# Altium schematic symbol library LT3032.Schlib: 1 symbol
Pins are listed as number, name and electrical type; pins without a type are passive.

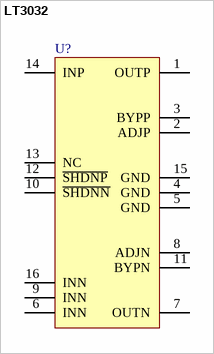
[diagram p0: symbol LT3032]

## LT3032
designator U?
pins: 1 OUTP, 2 ADJP, 3 BYPP, 4 GND, 5 GND, 6 INN, 7 OUTN, 8 ADJN, 9 INN, 10 ~{SHDNN}, 11 BYPN, 12 ~{SHDNP}, 13 NC, 14 INP, 15 GND, 16 INN